# Altium footprint library CM.PcbLib: 73 footprints (part 2 of 5)
Each footprint in its own frame and in the unit in brackets; x right, y up, seen from the top. Pads: shape width x height; smd on the part's side, far side on the other; paste and mask are expansions set on the pad; w line width, h text height; cw(c..) or ccw(c..) is an arc to the next point about the centre after c.
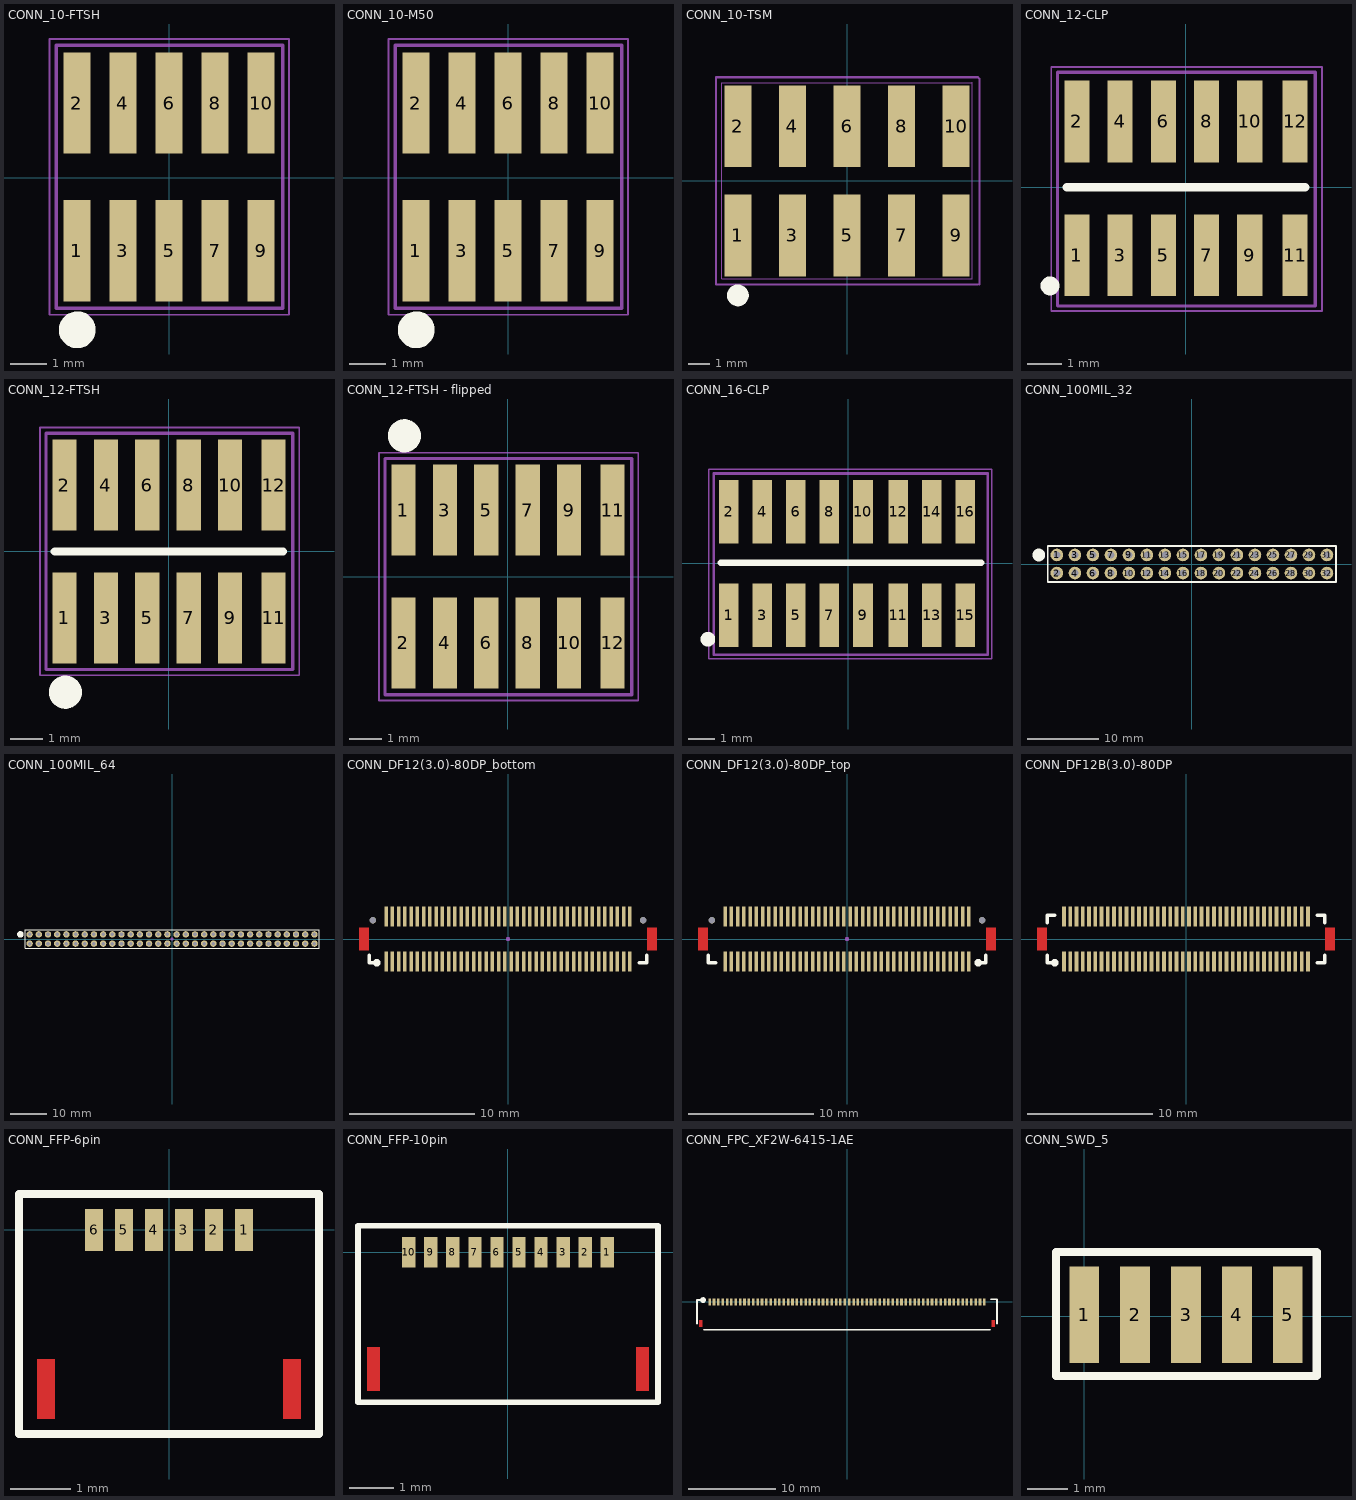
[diagram p1: the footprints below, top view; thin cyan lines are the x and y axes]

## CONN_10-FTSH [mm] "FTSH-105-xx-x-DV"
pads (10):
  rect 0.74x2.79 smd: 1(-2.55,-2.01) 2(-2.55,2.06) 3(-1.28,-2.01) 4(-1.28,2.06) 5(-0.01,-2.01) 6(-0.01,2.06) 7(1.26,-2.01) 8(1.26,2.06) 9(2.53,-2.01) 10(2.53,2.06)
Top Overlay:
  circle w0.508: c-2.54,-4.191 r0.254
Mechanical 13:
  lines w0.1: -3.12,-3.6 3.125,-3.6 3.125,-0.343 3.125,3.65 -3.12,3.65 -3.12,-3.6
Mechanical 15:
  lines w0.05: -3.3,-3.775 -3.3,3.825 3.3,3.825 3.3,-3.775 -3.3,-3.775
3D body: height 0.8, standoff 0.05, extent -3.136,-2.51 3.125,2.39

## CONN_10-M50 [mm] "M50-3600542"
pads (10):
  rect 0.74x2.79 smd: 1(-2.55,-2.01) 2(-2.55,2.06) 3(-1.28,-2.01) 4(-1.28,2.06) 5(-0.01,-2.01) 6(-0.01,2.06) 7(1.26,-2.01) 8(1.26,2.06) 9(2.53,-2.01) 10(2.53,2.06)
Top Overlay:
  circle w0.508: c-2.54,-4.191 r0.254
Mechanical 13:
  lines w0.1: -3.12,-3.6 -3.12,3.65 3.125,3.65 3.125,-0.343 3.125,-3.6 -3.12,-3.6
Mechanical 15:
  lines w0.05: -3.3,-3.775 3.3,-3.775 3.3,3.825 -3.3,3.825 -3.3,-3.775
3D body: height 0.8, standoff 0.05, extent -3.136,-2.51 3.125,2.39

## CONN_10-TSM [mm] "TSM-105-XX-X-dv-X"
pads (10):
  rect 1.27x3.81 smd: 1(-5.08,-2.54) 2(-5.08,2.54) 3(-2.54,-2.54) 4(-2.54,2.54) 5(0,-2.54) 6(0,2.54) 7(2.54,-2.54) 8(2.54,2.54) 9(5.08,-2.54) 10(5.08,2.54)
Top Overlay:
  circle w0.508: c-5.08,-5.334 r0.254
Mechanical 13:
  lines w0.1: 6.096,-4.826 -6.096,-4.826 -6.096,4.826 6.096,4.826 6.173,4.749 6.173,-1.359 6.173,-4.826
Mechanical 15:
  lines w0.05: 5.84,-4.572 5.84,4.587 ; 5.842,-4.572 -5.842,-4.572 -5.842,4.572 5.842,4.572
3D body: height 0.8, standoff 0.05, extent -5.842,-3.302 5.842,3.048

## CONN_12-CLP [mm] "CLP-106-xx-x-D"
pads (12):
  rect 0.74x2.4 smd: 1(-3.2,-1.995) 2(-3.2,1.935) 3(-1.93,-1.995) 4(-1.93,1.935) 5(-0.66,-1.995) 6(-0.66,1.935) 7(0.61,-1.995) 8(0.61,1.935) 9(1.88,-1.995) 10(1.88,1.935) 11(3.21,-1.995) 12(3.21,1.935)
Top Overlay:
  circle w0.3: c-3.988,-2.896 r0.127
  lines w0.254: -3.5,0 3.5,0
Mechanical 13:
  lines w0.1: -3.77,-3.485 3.8,-3.485 3.8,-1.693 3.8,3.375 -3.77,3.375 -3.77,-3.485
Mechanical 15:
  lines w0.05: -3.95,-3.635 -3.95,3.535 4,3.535 4,-3.635 -3.95,-3.635
3D body: height 2.29, standoff 0, extent -3.786,-1.525 3.8,1.5

## CONN_12-FTSH [mm] "FTSH-106-xx-x-DV"
pads (12):
  rect 0.74x2.79 smd: 1(-3.2,-2.035) 2(-3.2,2.035) 3(-1.93,-2.035) 4(-1.93,2.035) 5(-0.66,-2.035) 6(-0.66,2.035) 7(0.61,-2.035) 8(0.61,2.035) 9(1.88,-2.035) 10(1.88,2.035) 11(3.21,-2.035) 12(3.21,2.035)
Top Overlay:
  circle w0.508: c-3.175,-4.318 r0.254
  lines w0.254: -3.5,0 3.5,0
Mechanical 13:
  lines w0.1: -3.77,-3.625 -3.77,3.625 3.8,3.625 3.8,-1.693 3.8,-3.625 -3.77,-3.625
Mechanical 15:
  lines w0.05: -3.95,-3.8 4,-3.8 4,3.8 -3.95,3.8 -3.95,-3.8
3D body: height 0.8, standoff 0.05, extent -3.786,-2.535 3.8,2.365

## CONN_12-FTSH - flipped [mm] "FTSH-106-xx-x-DV"
pads (12):
  rect 0.74x2.79 smd: 1(-3.2,2.035) 2(-3.2,-2.035) 3(-1.93,2.035) 4(-1.93,-2.035) 5(-0.66,2.035) 6(-0.66,-2.035) 7(0.61,2.035) 8(0.61,-2.035) 9(1.88,2.035) 10(1.88,-2.035) 11(3.21,2.035) 12(3.21,-2.035)
Top Overlay:
  circle w0.508: c-3.175,4.318 r0.254
Mechanical 13:
  lines w0.1: -3.77,-3.625 3.8,-3.625 3.8,-1.693 3.8,3.625 -3.77,3.625 -3.77,-3.625
Mechanical 15:
  lines w0.05: -3.95,-3.8 -3.95,3.8 4,3.8 4,-3.8 -3.95,-3.8
3D body: height 0.8, standoff 0.05, extent -3.786,-2.535 3.8,2.365

## CONN_16-CLP [mm] "CLP-106-xx-x-D"
pads (16):
  rect 0.74x2.4 smd: 1(-4.53,-1.977) 2(-4.53,1.953) 3(-3.26,-1.977) 4(-3.26,1.953) 5(-1.99,-1.977) 6(-1.99,1.953) 7(-0.72,-1.977) 8(-0.72,1.953) 9(0.55,-1.977) 10(0.55,1.953) 11(1.88,-1.977) 12(1.88,1.953) 13(3.15,-1.977) 14(3.15,1.953) 15(4.42,-1.977) 16(4.42,1.95)
Top Overlay:
  circle w0.3: c-5.318,-2.878 r0.127
  lines w0.254: -4.83,0.018 5.02,0.018
Mechanical 13:
  lines w0.1: -5.1,-3.467 2.47,-3.467 5.27,-3.467 5.27,3.393 -5.1,3.393 -5.1,-3.467
Mechanical 15:
  lines w0.05: -5.28,-3.617 -5.28,3.552 5.42,3.552 5.42,-3.617 -5.28,-3.617
3D body: height 2.29, standoff 0, extent -5.116,-1.508 5.27,1.518

## CONN_100MIL_32 [mil]
pads (32):
  round 70 hole 39.37: 1(-750,50) 2(-750,-50) 3(-650,50) 4(-650,-50) 5(-550,50) 6(-550,-50) 7(-450,50) 8(-450,-50) 9(-350,50) 10(-350,-50) 11(-250,50) 12(-250,-50) 13(-150,50) 14(-150,-50) 15(-50,50) 16(-50,-50) 17(50,50) 18(50,-50) 19(150,50) 20(150,-50) 21(250,50) 22(250,-50) 23(350,50) 24(350,-50) 25(450,50) 26(450,-50) 27(550,50) 28(550,-50) 29(650,50) 30(650,-50) 31(750,50) 32(750,-50)
Top Overlay:
  circle w39.37: c-850,50 r15.75
  lines w10: -800,-100 800,-100 800,100 -800,100 -800,-100

## CONN_100MIL_64 [mil]
pads (64):
  round 70 hole 39.37: 1(-1550,50) 2(-1550,-50) 3(-1450,50) 4(-1450,-50) 5(-1350,50) 6(-1350,-50) 7(-1250,50) 8(-1250,-50) 9(-1150,50) 10(-1150,-50) 11(-1050,50) 12(-1050,-50) 13(-950,50) 14(-950,-50) 15(-850,50) 16(-850,-50) 17(-750,50) 18(-750,-50) 19(-650,50) 20(-650,-50) 21(-550,50) 22(-550,-50) 23(-450,50) 24(-450,-50) 25(-350,50) 26(-350,-50) 27(-250,50) 28(-250,-50) 29(-150,50) 30(-150,-50) 31(-50,50) 32(-50,-50) 33(50,50) 34(50,-50) 35(150,50) 36(150,-50) 37(250,50) 38(250,-50) 39(350,50) 40(350,-50) 41(450,50) 42(450,-50) 43(550,50) 44(550,-50) 45(650,50) 46(650,-50) 47(750,50) 48(750,-50) 49(850,50) 50(850,-50) 51(950,50) 52(950,-50) 53(1050,50) 54(1050,-50) 55(1150,50) 56(1150,-50) 57(1250,50) 58(1250,-50) 59(1350,50) 60(1350,-50) 61(1450,50) 62(1450,-50) 63(1550,50) 64(1550,-50)
Top Overlay:
  circle w39.37: c-1650,50 r15.75
  lines w10: -1600,-100 1600,-100 1600,100 -1600,100 -1600,-100
Mechanical 1:
  circle w15.75: c0,0 r7.87

## CONN_DF12(3.0)-80DP_bottom [mm] "Hirose header 80 pos 3.0mm stack height 0.5mm pitch, pin guides, for mirroring"
pads (82):
  round 0.5 hole 0.52 unplated paste+0 mask+0: 0(-10.8,1.5) 0(10.8,1.5)
  rect 0.295x1.6 smd paste-0.02 mask+0.038: 1(-9.75,-1.8) 2(-9.75,1.8) 3(-9.25,-1.8) 4(-9.25,1.8) 5(-8.75,-1.8) 6(-8.75,1.8) 7(-8.25,-1.8) 8(-8.25,1.8) 9(-7.75,-1.8) 10(-7.75,1.8) 11(-7.25,-1.8) 12(-7.25,1.8) 13(-6.75,-1.8) 14(-6.75,1.8) 15(-6.25,-1.8) 16(-6.25,1.8) 17(-5.75,-1.8) 18(-5.75,1.8) 19(-5.25,-1.8) 20(-5.25,1.8) 21(-4.75,-1.8) 22(-4.75,1.8) 23(-4.25,-1.8) 24(-4.25,1.8) 25(-3.75,-1.8) 26(-3.75,1.8) 27(-3.25,-1.8) 28(-3.25,1.8) 29(-2.75,-1.8) 30(-2.75,1.8) 31(-2.25,-1.8) 32(-2.25,1.8) 33(-1.75,-1.8) 34(-1.75,1.8) 35(-1.25,-1.8) 36(-1.25,1.8) 37(-0.75,-1.8) 38(-0.75,1.8) 39(-0.25,-1.8) 40(-0.25,1.8) 41(0.25,-1.8) 42(0.25,1.8) 43(0.75,-1.8) 44(0.75,1.8) 45(1.25,-1.8) 46(1.25,1.8) 47(1.75,-1.8) 48(1.75,1.8) 49(2.25,-1.8) 50(2.25,1.8) 51(2.75,-1.8) 52(2.75,1.8) 53(3.25,-1.8) 54(3.25,1.8) 55(3.75,-1.8) 56(3.75,1.8) 57(4.25,-1.8) 58(4.25,1.8) 59(4.75,-1.8) 60(4.75,1.8) 61(5.25,-1.8) 62(5.25,1.8) 63(5.75,-1.8) 64(5.75,1.8) 65(6.25,-1.8) 66(6.25,1.8) 67(6.75,-1.8) 68(6.75,1.8) 69(7.25,-1.8) 70(7.25,1.8) 71(7.75,-1.8) 72(7.75,1.8) 73(8.25,-1.8) 74(8.25,1.8) 75(8.75,-1.8) 76(8.75,1.8) 77(9.25,-1.8) 78(9.25,1.8) 79(9.75,-1.8) 80(9.75,1.8)
Top Layer:
  rectangle: -11.9,-0.9 -11.1,0.9
  rectangle: 11.1,-0.9 11.9,0.9
Top Overlay:
  circle w0.4: c-10.5,-1.9 r0.1
  lines w0.254: -11.1,-1.3 -11.1,-1.9 -10.5,-1.9 ; 10.5,-1.9 11.1,-1.9 11.1,-1.3
Top Paste:
  rectangle: -11.9,-0.9 -11.1,0.9
  rectangle: 11.1,-0.9 11.9,0.9
Top Solder:
  rectangle: 11,-1 12,1
  rectangle: -12,-1 -11,1
Mechanical 1:
  circle w0.15: c0,0 r0.1

## CONN_DF12(3.0)-80DP_top [mm] "Hirose header 80 pos 3.0mm stack height 0.5mm pitch, pin guides, for top mounting"
pads (82):
  round 0.5 hole 0.52 unplated paste+0 mask+0: 0(-10.8,1.5) 0(10.8,1.5)
  rect 0.295x1.6 smd paste-0.02 mask+0.038: 1(9.75,-1.8) 2(9.75,1.8) 3(9.25,-1.8) 4(9.25,1.8) 5(8.75,-1.8) 6(8.75,1.8) 7(8.25,-1.8) 8(8.25,1.8) 9(7.75,-1.8) 10(7.75,1.8) 11(7.25,-1.8) 12(7.25,1.8) 13(6.75,-1.8) 14(6.75,1.8) 15(6.25,-1.8) 16(6.25,1.8) 17(5.75,-1.8) 18(5.75,1.8) 19(5.25,-1.8) 20(5.25,1.8) 21(4.75,-1.8) 22(4.75,1.8) 23(4.25,-1.8) 24(4.25,1.8) 25(3.75,-1.8) 26(3.75,1.8) 27(3.25,-1.8) 28(3.25,1.8) 29(2.75,-1.8) 30(2.75,1.8) 31(2.25,-1.8) 32(2.25,1.8) 33(1.75,-1.8) 34(1.75,1.8) 35(1.25,-1.8) 36(1.25,1.8) 37(0.75,-1.8) 38(0.75,1.8) 39(0.25,-1.8) 40(0.25,1.8) 41(-0.25,-1.8) 42(-0.25,1.8) 43(-0.75,-1.8) 44(-0.75,1.8) 45(-1.25,-1.8) 46(-1.25,1.8) 47(-1.75,-1.8) 48(-1.75,1.8) 49(-2.25,-1.8) 50(-2.25,1.8) 51(-2.75,-1.8) 52(-2.75,1.8) 53(-3.25,-1.8) 54(-3.25,1.8) 55(-3.75,-1.8) 56(-3.75,1.8) 57(-4.25,-1.8) 58(-4.25,1.8) 59(-4.75,-1.8) 60(-4.75,1.8) 61(-5.25,-1.8) 62(-5.25,1.8) 63(-5.75,-1.8) 64(-5.75,1.8) 65(-6.25,-1.8) 66(-6.25,1.8) 67(-6.75,-1.8) 68(-6.75,1.8) 69(-7.25,-1.8) 70(-7.25,1.8) 71(-7.75,-1.8) 72(-7.75,1.8) 73(-8.25,-1.8) 74(-8.25,1.8) 75(-8.75,-1.8) 76(-8.75,1.8) 77(-9.25,-1.8) 78(-9.25,1.8) 79(-9.75,-1.8) 80(-9.75,1.8)
Top Layer:
  rectangle: 11.1,-0.9 11.9,0.9
  rectangle: -11.9,-0.9 -11.1,0.9
Top Overlay:
  circle w0.4: c10.5,-1.9 r0.1
  lines w0.254: -11.1,-1.3 -11.1,-1.9 -10.5,-1.9 ; 10.5,-1.9 11.1,-1.9 11.1,-1.3
Top Paste:
  rectangle: 11.1,-0.9 11.9,0.9
  rectangle: -11.9,-0.9 -11.1,0.9
Top Solder:
  rectangle: -12,-1 -11,1
  rectangle: 11,-1 12,1
Mechanical 1:
  circle w0.15: c0,0 r0.1

## CONN_DF12B(3.0)-80DP [mm] "Hirose header 80 pos 3.0mm stack height 0.5mm pitch"
pads (80):
  rect 0.3x1.6 smd: 1(-9.75,-1.8) 2(-9.75,1.8) 3(-9.25,-1.8) 4(-9.25,1.8) 5(-8.75,-1.8) 6(-8.75,1.8) 7(-8.25,-1.8) 8(-8.25,1.8) 9(-7.75,-1.8) 10(-7.75,1.8) 11(-7.25,-1.8) 12(-7.25,1.8) 13(-6.75,-1.8) 14(-6.75,1.8) 15(-6.25,-1.8) 16(-6.25,1.8) 17(-5.75,-1.8) 18(-5.75,1.8) 19(-5.25,-1.8) 20(-5.25,1.8) 21(-4.75,-1.8) 22(-4.75,1.8) 23(-4.25,-1.8) 24(-4.25,1.8) 25(-3.75,-1.8) 26(-3.75,1.8) 27(-3.25,-1.8) 28(-3.25,1.8) 29(-2.75,-1.8) 30(-2.75,1.8) 31(-2.25,-1.8) 32(-2.25,1.8) 33(-1.75,-1.8) 34(-1.75,1.8) 35(-1.25,-1.8) 36(-1.25,1.8) 37(-0.75,-1.8) 38(-0.75,1.8) 39(-0.25,-1.8) 40(-0.25,1.8) 41(0.25,-1.8) 42(0.25,1.8) 43(0.75,-1.8) 44(0.75,1.8) 45(1.25,-1.8) 46(1.25,1.8) 47(1.75,-1.8) 48(1.75,1.8) 49(2.25,-1.8) 50(2.25,1.8) 51(2.75,-1.8) 52(2.75,1.8) 53(3.25,-1.8) 54(3.25,1.8) 55(3.75,-1.8) 56(3.75,1.8) 57(4.25,-1.8) 58(4.25,1.8) 59(4.75,-1.8) 60(4.75,1.8) 61(5.25,-1.8) 62(5.25,1.8) 63(5.75,-1.8) 64(5.75,1.8) 65(6.25,-1.8) 66(6.25,1.8) 67(6.75,-1.8) 68(6.75,1.8) 69(7.25,-1.8) 70(7.25,1.8) 71(7.75,-1.8) 72(7.75,1.8) 73(8.25,-1.8) 74(8.25,1.8) 75(8.75,-1.8) 76(8.75,1.8) 77(9.25,-1.8) 78(9.25,1.8) 79(9.75,-1.8) 80(9.75,1.8)
Top Layer:
  rectangle: 11.1,-0.9 11.9,0.9
  rectangle: -11.9,-0.9 -11.1,0.9
Top Overlay:
  circle w0.4: c-10.5,-1.9 r0.1
  lines w0.254: -11.1,-1.3 -11.1,-1.9 -10.5,-1.9 ; -11.1,1.3 -11.1,1.9 -10.5,1.9 ; 10.5,-1.9 11.1,-1.9 11.1,-1.3 ; 10.5,1.9 11.1,1.9 11.1,1.3
Top Solder:
  rectangle: -10,-2.6 10,-0.9
  rectangle: -10,0.9 10,2.6
  rectangle: -12,-1 -11,1
  rectangle: 11,-1 12,1

## CONN_FFP-6pin [mm]
pads (6):
  rect 0.3x0.7 smd paste-0.025 mask+0.05: 1(1.25,0) 2(0.75,0) 3(0.25,0) 4(-0.25,0) 5(-0.75,0) 6(-1.25,0)
Top Layer:
  rectangle: 1.9,-3.15 2.2,-2.15
  rectangle: -2.2,-3.15 -1.9,-2.15
Top Overlay:
  lines w0.127: -2.5,-3.4 2.5,-3.4 2.5,0.6 -2.5,0.6 -2.5,-3.4
Top Paste:
  rectangle: 1.925,-3.125 2.175,-2.175
  rectangle: -2.175,-3.125 -1.925,-2.175
Top Solder:
  rectangle: -2.25,-3.2 -1.85,-2.1
  rectangle: 1.85,-3.2 2.25,-2.1

## CONN_FFP-10pin [mm]
pads (10):
  rect 0.3x0.7 smd paste-0.025 mask+0.05: 1(2.25,0) 2(1.75,0) 3(1.25,0) 4(0.75,0) 5(0.25,0) 6(-0.25,0) 7(-0.75,0) 8(-1.25,0) 9(-1.75,0) 10(-2.25,0)
Top Layer:
  rectangle: -3.2,-3.15 -2.9,-2.15
  rectangle: 2.9,-3.15 3.2,-2.15
Top Overlay:
  lines w0.127: -3.4,-3.4 -3.4,0.6 3.4,0.6 3.4,-3.4 -3.4,-3.4
Top Paste:
  rectangle: -3.175,-3.125 -2.925,-2.175
  rectangle: 2.925,-3.125 3.175,-2.175
Top Solder:
  rectangle: 2.85,-3.2 3.25,-2.1
  rectangle: -3.25,-3.2 -2.85,-2.1

## CONN_FPC_XF2W-6415-1AE [mm] "64 pin FFC connector"
pads (64):
  rect 0.295x0.8 smd mask+0.038: 1(-15.75,0) 2(-15.25,0) 3(-14.75,0) 4(-14.25,0) 5(-13.75,0) 6(-13.25,0) 7(-12.75,0) 8(-12.25,0) 9(-11.75,0) 10(-11.25,0) 11(-10.75,0) 12(-10.25,0) 13(-9.75,0) 14(-9.25,0) 15(-8.75,0) 16(-8.25,0) 17(-7.75,0) 18(-7.25,0) 19(-6.75,0) 20(-6.25,0) 21(-5.75,0) 22(-5.25,0) 23(-4.75,0) 24(-4.25,0) 25(-3.75,0) 26(-3.25,0) 27(-2.75,0) 28(-2.25,0) 29(-1.75,0) 30(-1.25,0) 31(-0.75,0) 32(-0.25,0) 33(0.25,0) 34(0.75,0) 35(1.25,0) 36(1.75,0) 37(2.25,0) 38(2.75,0) 39(3.25,0) 40(3.75,0) 41(4.25,0) 42(4.75,0) 43(5.25,0) 44(5.75,0) 45(6.25,0) 46(6.75,0) 47(7.25,0) 48(7.75,0) 49(8.25,0) 50(8.75,0) 51(9.25,0) 52(9.75,0) 53(10.25,0) 54(10.75,0) 55(11.25,0) 56(11.75,0) 57(12.25,0) 58(12.75,0) 59(13.25,0) 60(13.75,0) 61(14.25,0) 62(14.75,0) 63(15.25,0) 64(15.75,0)
Top Layer:
  rectangle: -16.95,-2.9 -16.55,-2.1
  rectangle: 16.55,-2.9 16.95,-2.1
Top Overlay:
  circle w0.254: c-16.5,0.2 r0.2
  lines w0.203: -17.2,-2.5 -17.2,0.2 -16.8,0.2 -16.5,0.2 ; -16.4,-3.2 16.4,-3.2 ; 16.5,0.3 17.2,0.3 17.2,-2.5
Top Paste:
  rectangle: 16.575,-2.875 16.925,-2.125
  rectangle: -16.925,-2.875 -16.575,-2.125
Top Solder:
  rectangle: -17,-2.95 -16.5,-2.05
  rectangle: 16.5,-2.95 17,-2.05

## CONN_SWD_5 [mm]
pads (5):
  rect 0.74x2.4 smd: 1(0,0.03) 2(1.27,0.03) 3(2.54,0.03) 4(3.81,0.03) 5(5.08,0.03)
Top Overlay:
  lines w0.203: -0.7,-1.5 -0.7,1.6 5.8,1.6 5.8,-1.5 -0.7,-1.5